# Altium schematic symbol library jlcpcb_2025_04_inductors_extended_1008.schlib: 378 symbols (part 2 of 7)
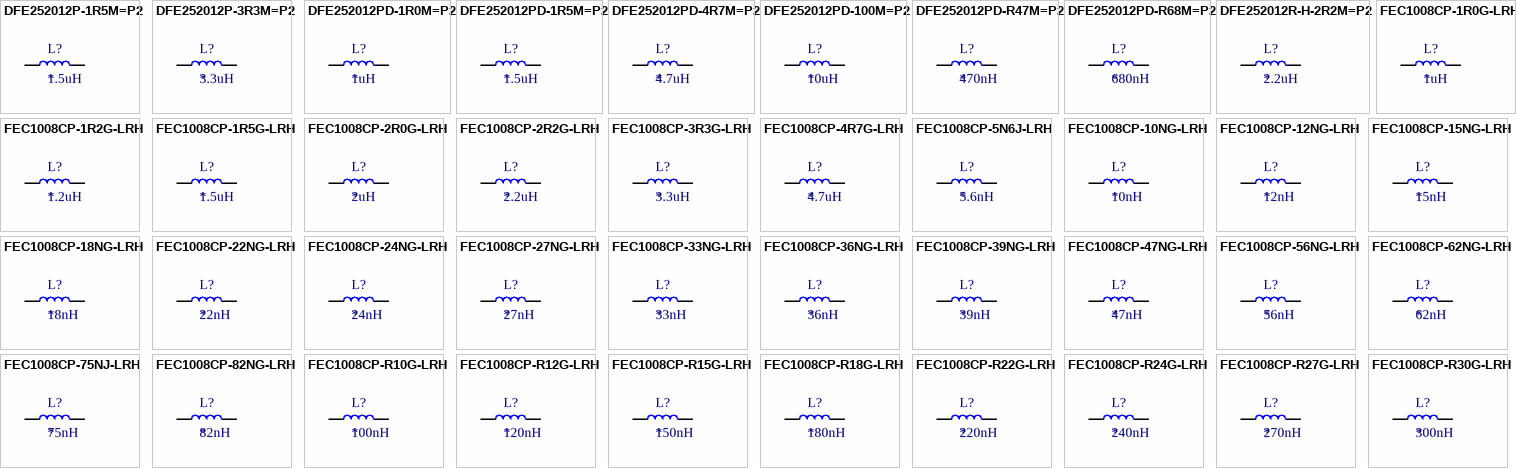
[diagram p10: symbols DFE252012P-1R5M=P2 to FEC1008CP-R30G-LRH]

## FEC1008CP-4R7G-LRH
designator L?  Inductance: 4.7uH
Inductor, 4.7uH, SMD 1008; Manufacturer: PSA(Prosperity Dielectrics); Manufacturer Part Number: FEC1008CP-4R7G-LRH; Package Size: 1008; JLCPCB Basic Part: No; JLCPCB Part Number: C346426; Supplier 1: LCSC; Category: Inductors; Supplier Part Number 1: C346426; RoHS: Yes; ComponentLink1Description: Datasheet; ComponentLink1URL: https://wmsc.lcsc.com/wmsc/upload/file/pdf/v2/lcsc/2209061730_PSA-Prosperity-Dielectrics-FEC1008CP-4R7G-LRH_C346426.pdf; ComponentLink2Description: JLCPCB Part URL; ComponentLink2URL: https://jlcpcb.com/partdetail/C346426; ComponentLink3Description: LCSC Part URL; ComponentLink3URL: https://lcsc.com/product-detail/Inductors-SMD_PSAProsperity-Dielectrics-PSAProsperity-Dielectrics-FEC1008CP-4R7G-LRH_C346426.html
footprint IND-1008 (1008 (2520M) Inductor)
pins: 1, 2

## FEC1008CP-5N6J-LRH
designator L?  Inductance: 5.6nH
Inductor, 5.6nH, ±5%, SMD 1008; Manufacturer: PSA(Prosperity Dielectrics); Manufacturer Part Number: FEC1008CP-5N6J-LRH; Package Size: 1008; JLCPCB Basic Part: No; JLCPCB Part Number: C346428; Supplier 1: LCSC; Category: Inductors; Supplier Part Number 1: C346428; Tolerance: ±5%; RoHS: Yes; ComponentLink1Description: Datasheet; ComponentLink1URL: https://wmsc.lcsc.com/wmsc/upload/file/pdf/v2/lcsc/2304140030_PSA-Prosperity-Dielectrics-FEC1008CP-5N6J-LRH_C346428.pdf; ComponentLink2Description: JLCPCB Part URL; ComponentLink2URL: https://jlcpcb.com/partdetail/C346428; ComponentLink3Description: LCSC Part URL; ComponentLink3URL: https://lcsc.com/product-detail/Inductors-SMD_PSAProsperity-Dielectrics-PSAProsperity-Dielectrics-FEC1008CP-5N6J-LRH_C346428.html
footprint IND-1008 (1008 (2520M) Inductor)
pins: 1, 2

## FEC1008CP-10NG-LRH
designator L?  Inductance: 10nH
Inductor, 10nH, ±2%, 80mΩ, 1A, SMD 1008; Manufacturer: PSA(Prosperity Dielectrics); Manufacturer Part Number: FEC1008CP-10NG-LRH; Package Size: 1008; JLCPCB Basic Part: No; JLCPCB Part Number: C346404; Supplier 1: LCSC; Category: Inductors; Supplier Part Number 1: C346404; Tolerance: ±2%; Rated Current: 1A; DC Resistance: 80mΩ; RoHS: Yes; ComponentLink1Description: Datasheet; ComponentLink1URL: https://wmsc.lcsc.com/wmsc/upload/file/pdf/v2/lcsc/2304140030_PSA-Prosperity-Dielectrics-FEC1008CP-10NG-LRH_C346404.pdf; ComponentLink2Description: JLCPCB Part URL; ComponentLink2URL: https://jlcpcb.com/partdetail/C346404; ComponentLink3Description: LCSC Part URL; ComponentLink3URL: https://lcsc.com/product-detail/Inductors-SMD_PSAProsperity-Dielectrics-PSAProsperity-Dielectrics-FEC1008CP-10NG-LRH_C346404.html
footprint IND-1008 (1008 (2520M) Inductor)
pins: 1, 2

## FEC1008CP-12NG-LRH
designator L?  Inductance: 12nH
Inductor, 12nH, ±2%, 90mΩ, 1A, SMD 1008; Manufacturer: PSA(Prosperity Dielectrics); Manufacturer Part Number: FEC1008CP-12NG-LRH; Package Size: 1008; JLCPCB Basic Part: No; JLCPCB Part Number: C346406; Supplier 1: LCSC; Category: Inductors; Supplier Part Number 1: C346406; Tolerance: ±2%; Rated Current: 1A; DC Resistance: 90mΩ; RoHS: Yes; ComponentLink1Description: Datasheet; ComponentLink1URL: https://wmsc.lcsc.com/wmsc/upload/file/pdf/v2/lcsc/2304140030_PSA-Prosperity-Dielectrics-FEC1008CP-12NG-LRH_C346406.pdf; ComponentLink2Description: JLCPCB Part URL; ComponentLink2URL: https://jlcpcb.com/partdetail/C346406; ComponentLink3Description: LCSC Part URL; ComponentLink3URL: https://lcsc.com/product-detail/Inductors-SMD_PSAProsperity-Dielectrics-PSAProsperity-Dielectrics-FEC1008CP-12NG-LRH_C346406.html
footprint IND-1008 (1008 (2520M) Inductor)
pins: 1, 2

## FEC1008CP-15NG-LRH
designator L?  Inductance: 15nH
Inductor, 15nH, ±2%, 100mΩ, 1A, SMD 1008; Manufacturer: PSA(Prosperity Dielectrics); Manufacturer Part Number: FEC1008CP-15NG-LRH; Package Size: 1008; JLCPCB Basic Part: No; JLCPCB Part Number: C346408; Supplier 1: LCSC; Category: Inductors; Supplier Part Number 1: C346408; Tolerance: ±2%; Rated Current: 1A; DC Resistance: 100mΩ; RoHS: Yes; ComponentLink1Description: Datasheet; ComponentLink1URL: https://wmsc.lcsc.com/wmsc/upload/file/pdf/v2/lcsc/2304140030_PSA-Prosperity-Dielectrics-FEC1008CP-15NG-LRH_C346408.pdf; ComponentLink2Description: JLCPCB Part URL; ComponentLink2URL: https://jlcpcb.com/partdetail/C346408; ComponentLink3Description: LCSC Part URL; ComponentLink3URL: https://lcsc.com/product-detail/Inductors-SMD_PSAProsperity-Dielectrics-PSAProsperity-Dielectrics-FEC1008CP-15NG-LRH_C346408.html
footprint IND-1008 (1008 (2520M) Inductor)
pins: 1, 2

## FEC1008CP-18NG-LRH
designator L?  Inductance: 18nH
Inductor, 18nH, ±2%, 110mΩ, 1A, SMD 1008; Manufacturer: PSA(Prosperity Dielectrics); Manufacturer Part Number: FEC1008CP-18NG-LRH; Package Size: 1008; JLCPCB Basic Part: No; JLCPCB Part Number: C346409; Supplier 1: LCSC; Category: Inductors; Supplier Part Number 1: C346409; Tolerance: ±2%; Rated Current: 1A; DC Resistance: 110mΩ; RoHS: Yes; ComponentLink1Description: Datasheet; ComponentLink1URL: https://wmsc.lcsc.com/wmsc/upload/file/pdf/v2/lcsc/2304140030_PSA-Prosperity-Dielectrics-FEC1008CP-18NG-LRH_C346409.pdf; ComponentLink2Description: JLCPCB Part URL; ComponentLink2URL: https://jlcpcb.com/partdetail/C346409; ComponentLink3Description: LCSC Part URL; ComponentLink3URL: https://lcsc.com/product-detail/Inductors-SMD_PSAProsperity-Dielectrics-PSAProsperity-Dielectrics-FEC1008CP-18NG-LRH_C346409.html
footprint IND-1008 (1008 (2520M) Inductor)
pins: 1, 2

## FEC1008CP-22NG-LRH
designator L?  Inductance: 22nH
Inductor, 22nH, ±2%, 120mΩ, 1A, SMD 1008; Manufacturer: PSA(Prosperity Dielectrics); Manufacturer Part Number: FEC1008CP-22NG-LRH; Package Size: 1008; JLCPCB Basic Part: No; JLCPCB Part Number: C346414; Supplier 1: LCSC; Category: Inductors; Supplier Part Number 1: C346414; Tolerance: ±2%; Rated Current: 1A; DC Resistance: 120mΩ; RoHS: Yes; ComponentLink1Description: Datasheet; ComponentLink1URL: https://wmsc.lcsc.com/wmsc/upload/file/pdf/v2/lcsc/2304140030_PSA-Prosperity-Dielectrics-FEC1008CP-22NG-LRH_C346414.pdf; ComponentLink2Description: JLCPCB Part URL; ComponentLink2URL: https://jlcpcb.com/partdetail/C346414; ComponentLink3Description: LCSC Part URL; ComponentLink3URL: https://lcsc.com/product-detail/Inductors-SMD_PSAProsperity-Dielectrics-PSAProsperity-Dielectrics-FEC1008CP-22NG-LRH_C346414.html
footprint IND-1008 (1008 (2520M) Inductor)
pins: 1, 2

## FEC1008CP-24NG-LRH
designator L?  Inductance: 24nH
Inductor, 24nH, ±2%, 130mΩ, 1A, SMD 1008; Manufacturer: PSA(Prosperity Dielectrics); Manufacturer Part Number: FEC1008CP-24NG-LRH; Package Size: 1008; JLCPCB Basic Part: No; JLCPCB Part Number: C346415; Supplier 1: LCSC; Category: Inductors; Supplier Part Number 1: C346415; Tolerance: ±2%; Rated Current: 1A; DC Resistance: 130mΩ; RoHS: Yes; ComponentLink1Description: Datasheet; ComponentLink1URL: https://wmsc.lcsc.com/wmsc/upload/file/pdf/v2/lcsc/2304140030_PSA-Prosperity-Dielectrics-FEC1008CP-24NG-LRH_C346415.pdf; ComponentLink2Description: JLCPCB Part URL; ComponentLink2URL: https://jlcpcb.com/partdetail/C346415; ComponentLink3Description: LCSC Part URL; ComponentLink3URL: https://lcsc.com/product-detail/Inductors-SMD_PSAProsperity-Dielectrics-PSAProsperity-Dielectrics-FEC1008CP-24NG-LRH_C346415.html
footprint IND-1008 (1008 (2520M) Inductor)
pins: 1, 2

## FEC1008CP-27NG-LRH
designator L?  Inductance: 27nH
Inductor, 27nH, ±2%, 130mΩ, 1A, SMD 1008; Manufacturer: PSA(Prosperity Dielectrics); Manufacturer Part Number: FEC1008CP-27NG-LRH; Package Size: 1008; JLCPCB Basic Part: No; JLCPCB Part Number: C346416; Supplier 1: LCSC; Category: Inductors; Supplier Part Number 1: C346416; Tolerance: ±2%; Rated Current: 1A; DC Resistance: 130mΩ; RoHS: Yes; ComponentLink1Description: Datasheet; ComponentLink1URL: https://wmsc.lcsc.com/wmsc/upload/file/pdf/v2/lcsc/2304140030_PSA-Prosperity-Dielectrics-FEC1008CP-27NG-LRH_C346416.pdf; ComponentLink2Description: JLCPCB Part URL; ComponentLink2URL: https://jlcpcb.com/partdetail/C346416; ComponentLink3Description: LCSC Part URL; ComponentLink3URL: https://lcsc.com/product-detail/Inductors-SMD_PSAProsperity-Dielectrics-PSAProsperity-Dielectrics-FEC1008CP-27NG-LRH_C346416.html
footprint IND-1008 (1008 (2520M) Inductor)
pins: 1, 2

## FEC1008CP-33NG-LRH
designator L?  Inductance: 33nH
Inductor, 33nH, ±2%, 140mΩ, 1A, SMD 1008; Manufacturer: PSA(Prosperity Dielectrics); Manufacturer Part Number: FEC1008CP-33NG-LRH; Package Size: 1008; JLCPCB Basic Part: No; JLCPCB Part Number: C346420; Supplier 1: LCSC; Category: Inductors; Supplier Part Number 1: C346420; Tolerance: ±2%; Rated Current: 1A; DC Resistance: 140mΩ; RoHS: Yes; ComponentLink1Description: Datasheet; ComponentLink1URL: https://wmsc.lcsc.com/wmsc/upload/file/pdf/v2/lcsc/2304140030_PSA-Prosperity-Dielectrics-FEC1008CP-33NG-LRH_C346420.pdf; ComponentLink2Description: JLCPCB Part URL; ComponentLink2URL: https://jlcpcb.com/partdetail/C346420; ComponentLink3Description: LCSC Part URL; ComponentLink3URL: https://lcsc.com/product-detail/Inductors-SMD_PSAProsperity-Dielectrics-PSAProsperity-Dielectrics-FEC1008CP-33NG-LRH_C346420.html
footprint IND-1008 (1008 (2520M) Inductor)
pins: 1, 2

## FEC1008CP-36NG-LRH
designator L?  Inductance: 36nH
Inductor, 36nH, ±2%, SMD 1008; Manufacturer: PSA(Prosperity Dielectrics); Manufacturer Part Number: FEC1008CP-36NG-LRH; Package Size: 1008; JLCPCB Basic Part: No; JLCPCB Part Number: C346421; Supplier 1: LCSC; Category: Inductors; Supplier Part Number 1: C346421; Tolerance: ±2%; RoHS: Yes; ComponentLink1Description: Datasheet; ComponentLink1URL: https://wmsc.lcsc.com/wmsc/upload/file/pdf/v2/lcsc/2304140030_PSA-Prosperity-Dielectrics-FEC1008CP-36NG-LRH_C346421.pdf; ComponentLink2Description: JLCPCB Part URL; ComponentLink2URL: https://jlcpcb.com/partdetail/C346421; ComponentLink3Description: LCSC Part URL; ComponentLink3URL: https://lcsc.com/product-detail/Inductors-SMD_PSAProsperity-Dielectrics-PSAProsperity-Dielectrics-FEC1008CP-36NG-LRH_C346421.html
footprint IND-1008 (1008 (2520M) Inductor)
pins: 1, 2

## FEC1008CP-39NG-LRH
designator L?  Inductance: 39nH
Inductor, 39nH, ±2%, 150mΩ, 1A, SMD 1008; Manufacturer: PSA(Prosperity Dielectrics); Manufacturer Part Number: FEC1008CP-39NG-LRH; Package Size: 1008; JLCPCB Basic Part: No; JLCPCB Part Number: C346422; Supplier 1: LCSC; Category: Inductors; Supplier Part Number 1: C346422; Tolerance: ±2%; Rated Current: 1A; DC Resistance: 150mΩ; RoHS: Yes; ComponentLink1Description: Datasheet; ComponentLink1URL: https://wmsc.lcsc.com/wmsc/upload/file/pdf/v2/lcsc/2304140030_PSA-Prosperity-Dielectrics-FEC1008CP-39NG-LRH_C346422.pdf; ComponentLink2Description: JLCPCB Part URL; ComponentLink2URL: https://jlcpcb.com/partdetail/C346422; ComponentLink3Description: LCSC Part URL; ComponentLink3URL: https://lcsc.com/product-detail/Inductors-SMD_PSAProsperity-Dielectrics-PSAProsperity-Dielectrics-FEC1008CP-39NG-LRH_C346422.html
footprint IND-1008 (1008 (2520M) Inductor)
pins: 1, 2

## FEC1008CP-47NG-LRH
designator L?  Inductance: 47nH
Inductor, 47nH, ±2%, 160mΩ, 1A, SMD 1008; Manufacturer: PSA(Prosperity Dielectrics); Manufacturer Part Number: FEC1008CP-47NG-LRH; Package Size: 1008; JLCPCB Basic Part: No; JLCPCB Part Number: C346425; Supplier 1: LCSC; Category: Inductors; Supplier Part Number 1: C346425; Tolerance: ±2%; Rated Current: 1A; DC Resistance: 160mΩ; RoHS: Yes; ComponentLink1Description: Datasheet; ComponentLink1URL: https://wmsc.lcsc.com/wmsc/upload/file/pdf/v2/lcsc/2304140030_PSA-Prosperity-Dielectrics-FEC1008CP-47NG-LRH_C346425.pdf; ComponentLink2Description: JLCPCB Part URL; ComponentLink2URL: https://jlcpcb.com/partdetail/C346425; ComponentLink3Description: LCSC Part URL; ComponentLink3URL: https://lcsc.com/product-detail/Inductors-SMD_PSAProsperity-Dielectrics-PSAProsperity-Dielectrics-FEC1008CP-47NG-LRH_C346425.html
footprint IND-1008 (1008 (2520M) Inductor)
pins: 1, 2

## FEC1008CP-56NG-LRH
designator L?  Inductance: 56nH
Inductor, 56nH, ±2%, 180mΩ, 1A, SMD 1008; Manufacturer: PSA(Prosperity Dielectrics); Manufacturer Part Number: FEC1008CP-56NG-LRH; Package Size: 1008; JLCPCB Basic Part: No; JLCPCB Part Number: C346427; Supplier 1: LCSC; Category: Inductors; Supplier Part Number 1: C346427; Tolerance: ±2%; Rated Current: 1A; DC Resistance: 180mΩ; RoHS: Yes; ComponentLink1Description: Datasheet; ComponentLink1URL: https://wmsc.lcsc.com/wmsc/upload/file/pdf/v2/lcsc/2304140030_PSA-Prosperity-Dielectrics-FEC1008CP-56NG-LRH_C346427.pdf; ComponentLink2Description: JLCPCB Part URL; ComponentLink2URL: https://jlcpcb.com/partdetail/C346427; ComponentLink3Description: LCSC Part URL; ComponentLink3URL: https://lcsc.com/product-detail/Inductors-SMD_PSAProsperity-Dielectrics-PSAProsperity-Dielectrics-FEC1008CP-56NG-LRH_C346427.html
footprint IND-1008 (1008 (2520M) Inductor)
pins: 1, 2

## FEC1008CP-62NG-LRH
designator L?  Inductance: 62nH
Inductor, 62nH, ±2%, SMD 1008; Manufacturer: PSA(Prosperity Dielectrics); Manufacturer Part Number: FEC1008CP-62NG-LRH; Package Size: 1008; JLCPCB Basic Part: No; JLCPCB Part Number: C346430; Supplier 1: LCSC; Category: Inductors; Supplier Part Number 1: C346430; Tolerance: ±2%; RoHS: Yes; ComponentLink1Description: Datasheet; ComponentLink1URL: https://wmsc.lcsc.com/wmsc/upload/file/pdf/v2/lcsc/2304140030_PSA-Prosperity-Dielectrics-FEC1008CP-62NG-LRH_C346430.pdf; ComponentLink2Description: JLCPCB Part URL; ComponentLink2URL: https://jlcpcb.com/partdetail/C346430; ComponentLink3Description: LCSC Part URL; ComponentLink3URL: https://lcsc.com/product-detail/Inductors-SMD_PSAProsperity-Dielectrics-PSAProsperity-Dielectrics-FEC1008CP-62NG-LRH_C346430.html
footprint IND-1008 (1008 (2520M) Inductor)
pins: 1, 2

## FEC1008CP-75NJ-LRH
designator L?  Inductance: 75nH
Inductor, 75nH, ±5%, SMD 1008; Manufacturer: PSA(Prosperity Dielectrics); Manufacturer Part Number: FEC1008CP-75NJ-LRH; Package Size: 1008; JLCPCB Basic Part: No; JLCPCB Part Number: C346433; Supplier 1: LCSC; Category: Inductors; Supplier Part Number 1: C346433; Tolerance: ±5%; RoHS: Yes; ComponentLink1Description: Datasheet; ComponentLink1URL: https://wmsc.lcsc.com/wmsc/upload/file/pdf/v2/lcsc/2304140030_PSA-Prosperity-Dielectrics-FEC1008CP-75NJ-LRH_C346433.pdf; ComponentLink2Description: JLCPCB Part URL; ComponentLink2URL: https://jlcpcb.com/partdetail/C346433; ComponentLink3Description: LCSC Part URL; ComponentLink3URL: https://lcsc.com/product-detail/Inductors-SMD_PSAProsperity-Dielectrics-PSAProsperity-Dielectrics-FEC1008CP-75NJ-LRH_C346433.html
footprint IND-1008 (1008 (2520M) Inductor)
pins: 1, 2

## FEC1008CP-82NG-LRH
designator L?  Inductance: 82nH
Inductor, 82nH, ±2%, 220mΩ, 1A, SMD 1008; Manufacturer: PSA(Prosperity Dielectrics); Manufacturer Part Number: FEC1008CP-82NG-LRH; Package Size: 1008; JLCPCB Basic Part: No; JLCPCB Part Number: C346434; Supplier 1: LCSC; Category: Inductors; Supplier Part Number 1: C346434; Tolerance: ±2%; Rated Current: 1A; DC Resistance: 220mΩ; RoHS: Yes; ComponentLink1Description: Datasheet; ComponentLink1URL: https://wmsc.lcsc.com/wmsc/upload/file/pdf/v2/lcsc/2304140030_PSA-Prosperity-Dielectrics-FEC1008CP-82NG-LRH_C346434.pdf; ComponentLink2Description: JLCPCB Part URL; ComponentLink2URL: https://jlcpcb.com/partdetail/C346434; ComponentLink3Description: LCSC Part URL; ComponentLink3URL: https://lcsc.com/product-detail/Inductors-SMD_PSAProsperity-Dielectrics-PSAProsperity-Dielectrics-FEC1008CP-82NG-LRH_C346434.html
footprint IND-1008 (1008 (2520M) Inductor)
pins: 1, 2

## FEC1008CP-R10G-LRH
designator L?  Inductance: 100nH
Inductor, 100nH, ±2%, 560mΩ, 650mA, SMD 1008; Manufacturer: PSA(Prosperity Dielectrics); Manufacturer Part Number: FEC1008CP-R10G-LRH; Package Size: 1008; JLCPCB Basic Part: No; JLCPCB Part Number: C346437; Supplier 1: LCSC; Category: Inductors; Supplier Part Number 1: C346437; Tolerance: ±2%; Rated Current: 650mA; DC Resistance: 560mΩ; RoHS: Yes; ComponentLink1Description: Datasheet; ComponentLink1URL: https://wmsc.lcsc.com/wmsc/upload/file/pdf/v2/lcsc/2304140030_PSA-Prosperity-Dielectrics-FEC1008CP-R10G-LRH_C346437.pdf; ComponentLink2Description: JLCPCB Part URL; ComponentLink2URL: https://jlcpcb.com/partdetail/C346437; ComponentLink3Description: LCSC Part URL; ComponentLink3URL: https://lcsc.com/product-detail/Inductors-SMD_PSAProsperity-Dielectrics-PSAProsperity-Dielectrics-FEC1008CP-R10G-LRH_C346437.html
footprint IND-1008 (1008 (2520M) Inductor)
pins: 1, 2

## FEC1008CP-R12G-LRH
designator L?  Inductance: 120nH
Inductor, 120nH, ±2%, 630mΩ, 650mA, SMD 1008; Manufacturer: PSA(Prosperity Dielectrics); Manufacturer Part Number: FEC1008CP-R12G-LRH; Package Size: 1008; JLCPCB Basic Part: No; JLCPCB Part Number: C346438; Supplier 1: LCSC; Category: Inductors; Supplier Part Number 1: C346438; Tolerance: ±2%; Rated Current: 650mA; DC Resistance: 630mΩ; RoHS: Yes; ComponentLink1Description: Datasheet; ComponentLink1URL: https://wmsc.lcsc.com/wmsc/upload/file/pdf/v2/lcsc/2304140030_PSA-Prosperity-Dielectrics-FEC1008CP-R12G-LRH_C346438.pdf; ComponentLink2Description: JLCPCB Part URL; ComponentLink2URL: https://jlcpcb.com/partdetail/C346438; ComponentLink3Description: LCSC Part URL; ComponentLink3URL: https://lcsc.com/product-detail/Inductors-SMD_PSAProsperity-Dielectrics-PSAProsperity-Dielectrics-FEC1008CP-R12G-LRH_C346438.html
footprint IND-1008 (1008 (2520M) Inductor)
pins: 1, 2

## FEC1008CP-R15G-LRH
designator L?  Inductance: 150nH
Inductor, 150nH, ±2%, 700mΩ, 580mA, SMD 1008; Manufacturer: PSA(Prosperity Dielectrics); Manufacturer Part Number: FEC1008CP-R15G-LRH; Package Size: 1008; JLCPCB Basic Part: No; JLCPCB Part Number: C346439; Supplier 1: LCSC; Category: Inductors; Supplier Part Number 1: C346439; Tolerance: ±2%; Rated Current: 580mA; DC Resistance: 700mΩ; RoHS: Yes; ComponentLink1Description: Datasheet; ComponentLink1URL: https://wmsc.lcsc.com/wmsc/upload/file/pdf/v2/lcsc/2304140030_PSA-Prosperity-Dielectrics-FEC1008CP-R15G-LRH_C346439.pdf; ComponentLink2Description: JLCPCB Part URL; ComponentLink2URL: https://jlcpcb.com/partdetail/C346439; ComponentLink3Description: LCSC Part URL; ComponentLink3URL: https://lcsc.com/product-detail/Inductors-SMD_PSAProsperity-Dielectrics-PSAProsperity-Dielectrics-FEC1008CP-R15G-LRH_C346439.html
footprint IND-1008 (1008 (2520M) Inductor)
pins: 1, 2

## FEC1008CP-R18G-LRH
designator L?  Inductance: 180nH
Inductor, 180nH, ±2%, 770mΩ, 620mA, SMD 1008; Manufacturer: PSA(Prosperity Dielectrics); Manufacturer Part Number: FEC1008CP-R18G-LRH; Package Size: 1008; JLCPCB Basic Part: No; JLCPCB Part Number: C346440; Supplier 1: LCSC; Category: Inductors; Supplier Part Number 1: C346440; Tolerance: ±2%; Rated Current: 620mA; DC Resistance: 770mΩ; RoHS: Yes; ComponentLink1Description: Datasheet; ComponentLink1URL: https://wmsc.lcsc.com/wmsc/upload/file/pdf/v2/lcsc/2304140030_PSA-Prosperity-Dielectrics-FEC1008CP-R18G-LRH_C346440.pdf; ComponentLink2Description: JLCPCB Part URL; ComponentLink2URL: https://jlcpcb.com/partdetail/C346440; ComponentLink3Description: LCSC Part URL; ComponentLink3URL: https://lcsc.com/product-detail/Inductors-SMD_PSAProsperity-Dielectrics-PSAProsperity-Dielectrics-FEC1008CP-R18G-LRH_C346440.html
footprint IND-1008 (1008 (2520M) Inductor)
pins: 1, 2

## FEC1008CP-R22G-LRH
designator L?  Inductance: 220nH
Inductor, 220nH, ±2%, 840mΩ, 500mA, SMD 1008; Manufacturer: PSA(Prosperity Dielectrics); Manufacturer Part Number: FEC1008CP-R22G-LRH; Package Size: 1008; JLCPCB Basic Part: No; JLCPCB Part Number: C346442; Supplier 1: LCSC; Category: Inductors; Supplier Part Number 1: C346442; Tolerance: ±2%; Rated Current: 500mA; DC Resistance: 840mΩ; RoHS: Yes; ComponentLink1Description: Datasheet; ComponentLink1URL: https://wmsc.lcsc.com/wmsc/upload/file/pdf/v2/lcsc/2304140030_PSA-Prosperity-Dielectrics-FEC1008CP-R22G-LRH_C346442.pdf; ComponentLink2Description: JLCPCB Part URL; ComponentLink2URL: https://jlcpcb.com/partdetail/C346442; ComponentLink3Description: LCSC Part URL; ComponentLink3URL: https://lcsc.com/product-detail/Inductors-SMD_PSAProsperity-Dielectrics-PSAProsperity-Dielectrics-FEC1008CP-R22G-LRH_C346442.html
footprint IND-1008 (1008 (2520M) Inductor)
pins: 1, 2

## FEC1008CP-R24G-LRH
designator L?  Inductance: 240nH
Inductor, 240nH, ±2%, 840mΩ, 500mA, SMD 1008; Manufacturer: PSA(Prosperity Dielectrics); Manufacturer Part Number: FEC1008CP-R24G-LRH; Package Size: 1008; JLCPCB Basic Part: No; JLCPCB Part Number: C346443; Supplier 1: LCSC; Category: Inductors; Supplier Part Number 1: C346443; Tolerance: ±2%; Rated Current: 500mA; DC Resistance: 840mΩ; RoHS: Yes; ComponentLink1Description: Datasheet; ComponentLink1URL: https://wmsc.lcsc.com/wmsc/upload/file/pdf/v2/lcsc/2304140030_PSA-Prosperity-Dielectrics-FEC1008CP-R24G-LRH_C346443.pdf; ComponentLink2Description: JLCPCB Part URL; ComponentLink2URL: https://jlcpcb.com/partdetail/C346443; ComponentLink3Description: LCSC Part URL; ComponentLink3URL: https://lcsc.com/product-detail/Inductors-SMD_PSAProsperity-Dielectrics-PSAProsperity-Dielectrics-FEC1008CP-R24G-LRH_C346443.html
footprint IND-1008 (1008 (2520M) Inductor)
pins: 1, 2

## FEC1008CP-R27G-LRH
designator L?  Inductance: 270nH
Inductor, 270nH, ±2%, 910mΩ, 500mA, SMD 1008; Manufacturer: PSA(Prosperity Dielectrics); Manufacturer Part Number: FEC1008CP-R27G-LRH; Package Size: 1008; JLCPCB Basic Part: No; JLCPCB Part Number: C346444; Supplier 1: LCSC; Category: Inductors; Supplier Part Number 1: C346444; Tolerance: ±2%; Rated Current: 500mA; DC Resistance: 910mΩ; RoHS: Yes; ComponentLink1Description: Datasheet; ComponentLink1URL: https://wmsc.lcsc.com/wmsc/upload/file/pdf/v2/lcsc/2304140030_PSA-Prosperity-Dielectrics-FEC1008CP-R27G-LRH_C346444.pdf; ComponentLink2Description: JLCPCB Part URL; ComponentLink2URL: https://jlcpcb.com/partdetail/C346444; ComponentLink3Description: LCSC Part URL; ComponentLink3URL: https://lcsc.com/product-detail/Inductors-SMD_PSAProsperity-Dielectrics-PSAProsperity-Dielectrics-FEC1008CP-R27G-LRH_C346444.html
footprint IND-1008 (1008 (2520M) Inductor)
pins: 1, 2

## FEC1008CP-R30G-LRH
designator L?  Inductance: 300nH
Inductor, 300nH, ±2%, 1.05Ω, 660mA, SMD 1008; Manufacturer: PSA(Prosperity Dielectrics); Manufacturer Part Number: FEC1008CP-R30G-LRH; Package Size: 1008; JLCPCB Basic Part: No; JLCPCB Part Number: C346445; Supplier 1: LCSC; Category: Inductors; Supplier Part Number 1: C346445; Tolerance: ±2%; Rated Current: 660mA; DC Resistance: 1.05Ω; RoHS: Yes; ComponentLink1Description: Datasheet; ComponentLink1URL: https://wmsc.lcsc.com/wmsc/upload/file/pdf/v2/lcsc/2304140030_PSA-Prosperity-Dielectrics-FEC1008CP-R30G-LRH_C346445.pdf; ComponentLink2Description: JLCPCB Part URL; ComponentLink2URL: https://jlcpcb.com/partdetail/C346445; ComponentLink3Description: LCSC Part URL; ComponentLink3URL: https://lcsc.com/product-detail/Inductors-SMD_PSAProsperity-Dielectrics-PSAProsperity-Dielectrics-FEC1008CP-R30G-LRH_C346445.html
footprint IND-1008 (1008 (2520M) Inductor)
pins: 1, 2

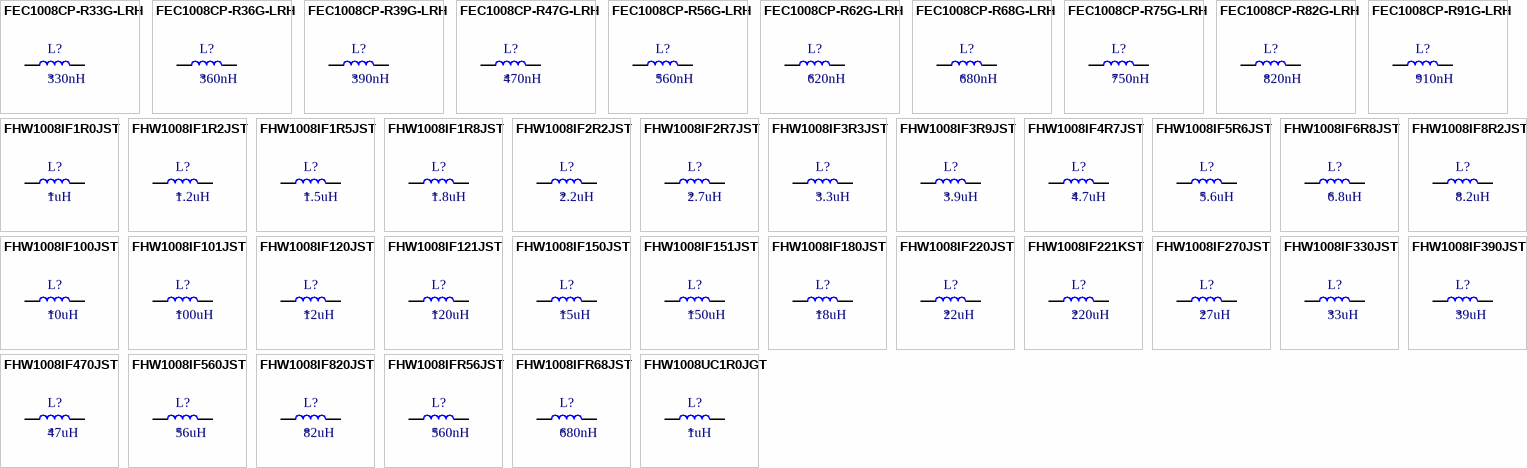
[diagram p2: symbols FEC1008CP-R33G-LRH to FHW1008UC1R0JGT]

## FEC1008CP-R33G-LRH
designator L?  Inductance: 330nH
Inductor, 330nH, ±2%, 1.05Ω, 450mA, SMD 1008; Manufacturer: PSA(Prosperity Dielectrics); Manufacturer Part Number: FEC1008CP-R33G-LRH; Package Size: 1008; JLCPCB Basic Part: No; JLCPCB Part Number: C346446; Supplier 1: LCSC; Category: Inductors; Supplier Part Number 1: C346446; Tolerance: ±2%; Rated Current: 450mA; DC Resistance: 1.05Ω; RoHS: Yes; ComponentLink1Description: Datasheet; ComponentLink1URL: https://wmsc.lcsc.com/wmsc/upload/file/pdf/v2/lcsc/2304140030_PSA-Prosperity-Dielectrics-FEC1008CP-R33G-LRH_C346446.pdf; ComponentLink2Description: JLCPCB Part URL; ComponentLink2URL: https://jlcpcb.com/partdetail/C346446; ComponentLink3Description: LCSC Part URL; ComponentLink3URL: https://lcsc.com/product-detail/Inductors-SMD_PSAProsperity-Dielectrics-PSAProsperity-Dielectrics-FEC1008CP-R33G-LRH_C346446.html
footprint IND-1008 (1008 (2520M) Inductor)
pins: 1, 2

## FEC1008CP-R36G-LRH
designator L?  Inductance: 360nH
Inductor, 360nH, ±2%, 1.05Ω, 660mA, SMD 1008; Manufacturer: PSA(Prosperity Dielectrics); Manufacturer Part Number: FEC1008CP-R36G-LRH; Package Size: 1008; JLCPCB Basic Part: No; JLCPCB Part Number: C346447; Supplier 1: LCSC; Category: Inductors; Supplier Part Number 1: C346447; Tolerance: ±2%; Rated Current: 660mA; DC Resistance: 1.05Ω; RoHS: Yes; ComponentLink1Description: Datasheet; ComponentLink1URL: https://wmsc.lcsc.com/wmsc/upload/file/pdf/v2/lcsc/2304140030_PSA-Prosperity-Dielectrics-FEC1008CP-R36G-LRH_C346447.pdf; ComponentLink2Description: JLCPCB Part URL; ComponentLink2URL: https://jlcpcb.com/partdetail/C346447; ComponentLink3Description: LCSC Part URL; ComponentLink3URL: https://lcsc.com/product-detail/Inductors-SMD_PSAProsperity-Dielectrics-PSAProsperity-Dielectrics-FEC1008CP-R36G-LRH_C346447.html
footprint IND-1008 (1008 (2520M) Inductor)
pins: 1, 2

## FEC1008CP-R39G-LRH
designator L?  Inductance: 390nH
Inductor, 390nH, ±2%, 1.12Ω, 470mA, SMD 1008; Manufacturer: PSA(Prosperity Dielectrics); Manufacturer Part Number: FEC1008CP-R39G-LRH; Package Size: 1008; JLCPCB Basic Part: No; JLCPCB Part Number: C346448; Supplier 1: LCSC; Category: Inductors; Supplier Part Number 1: C346448; Tolerance: ±2%; Rated Current: 470mA; DC Resistance: 1.12Ω; RoHS: Yes; ComponentLink1Description: Datasheet; ComponentLink1URL: https://wmsc.lcsc.com/wmsc/upload/file/pdf/v2/lcsc/2304140030_PSA-Prosperity-Dielectrics-FEC1008CP-R39G-LRH_C346448.pdf; ComponentLink2Description: JLCPCB Part URL; ComponentLink2URL: https://jlcpcb.com/partdetail/C346448; ComponentLink3Description: LCSC Part URL; ComponentLink3URL: https://lcsc.com/product-detail/Inductors-SMD_PSAProsperity-Dielectrics-PSAProsperity-Dielectrics-FEC1008CP-R39G-LRH_C346448.html
footprint IND-1008 (1008 (2520M) Inductor)
pins: 1, 2

## FEC1008CP-R47G-LRH
designator L?  Inductance: 470nH
Inductor, 470nH, ±2%, 1.19Ω, 470mA, SMD 1008; Manufacturer: PSA(Prosperity Dielectrics); Manufacturer Part Number: FEC1008CP-R47G-LRH; Package Size: 1008; JLCPCB Basic Part: No; JLCPCB Part Number: C346450; Supplier 1: LCSC; Category: Inductors; Supplier Part Number 1: C346450; Tolerance: ±2%; Rated Current: 470mA; DC Resistance: 1.19Ω; RoHS: Yes; ComponentLink1Description: Datasheet; ComponentLink1URL: https://wmsc.lcsc.com/wmsc/upload/file/pdf/v2/lcsc/1912111437_PSA-Prosperity-Dielectrics-FEC1008CP-R47G-LRH_C346450.pdf; ComponentLink2Description: JLCPCB Part URL; ComponentLink2URL: https://jlcpcb.com/partdetail/C346450; ComponentLink3Description: LCSC Part URL; ComponentLink3URL: https://lcsc.com/product-detail/Inductors-SMD_PSAProsperity-Dielectrics-PSAProsperity-Dielectrics-FEC1008CP-R47G-LRH_C346450.html
footprint IND-1008 (1008 (2520M) Inductor)
pins: 1, 2

## FEC1008CP-R56G-LRH
designator L?  Inductance: 560nH
Inductor, 560nH, ±2%, 1.33Ω, 400mA, SMD 1008; Manufacturer: PSA(Prosperity Dielectrics); Manufacturer Part Number: FEC1008CP-R56G-LRH; Package Size: 1008; JLCPCB Basic Part: No; JLCPCB Part Number: C346451; Supplier 1: LCSC; Category: Inductors; Supplier Part Number 1: C346451; Tolerance: ±2%; Rated Current: 400mA; DC Resistance: 1.33Ω; RoHS: Yes; ComponentLink1Description: Datasheet; ComponentLink1URL: https://wmsc.lcsc.com/wmsc/upload/file/pdf/v2/lcsc/2304140030_PSA-Prosperity-Dielectrics-FEC1008CP-R56G-LRH_C346451.pdf; ComponentLink2Description: JLCPCB Part URL; ComponentLink2URL: https://jlcpcb.com/partdetail/C346451; ComponentLink3Description: LCSC Part URL; ComponentLink3URL: https://lcsc.com/product-detail/Inductors-SMD_PSAProsperity-Dielectrics-PSAProsperity-Dielectrics-FEC1008CP-R56G-LRH_C346451.html
footprint IND-1008 (1008 (2520M) Inductor)
pins: 1, 2

## FEC1008CP-R62G-LRH
designator L?  Inductance: 620nH
Inductor, 620nH, ±2%, 1.4Ω, 300mA, SMD 1008; Manufacturer: PSA(Prosperity Dielectrics); Manufacturer Part Number: FEC1008CP-R62G-LRH; Package Size: 1008; JLCPCB Basic Part: No; JLCPCB Part Number: C346452; Supplier 1: LCSC; Category: Inductors; Supplier Part Number 1: C346452; Tolerance: ±2%; Rated Current: 300mA; DC Resistance: 1.4Ω; RoHS: Yes; ComponentLink1Description: Datasheet; ComponentLink1URL: https://wmsc.lcsc.com/wmsc/upload/file/pdf/v2/lcsc/2304140030_PSA-Prosperity-Dielectrics-FEC1008CP-R62G-LRH_C346452.pdf; ComponentLink2Description: JLCPCB Part URL; ComponentLink2URL: https://jlcpcb.com/partdetail/C346452; ComponentLink3Description: LCSC Part URL; ComponentLink3URL: https://lcsc.com/product-detail/Inductors-SMD_PSAProsperity-Dielectrics-PSAProsperity-Dielectrics-FEC1008CP-R62G-LRH_C346452.html
footprint IND-1008 (1008 (2520M) Inductor)
pins: 1, 2

## FEC1008CP-R68G-LRH
designator L?  Inductance: 680nH
Inductor, 680nH, ±2%, 1.47Ω, 400mA, SMD 1008; Manufacturer: PSA(Prosperity Dielectrics); Manufacturer Part Number: FEC1008CP-R68G-LRH; Package Size: 1008; JLCPCB Basic Part: No; JLCPCB Part Number: C346453; Supplier 1: LCSC; Category: Inductors; Supplier Part Number 1: C346453; Tolerance: ±2%; Rated Current: 400mA; DC Resistance: 1.47Ω; RoHS: Yes; ComponentLink1Description: Datasheet; ComponentLink1URL: https://wmsc.lcsc.com/wmsc/upload/file/pdf/v2/lcsc/2304140030_PSA-Prosperity-Dielectrics-FEC1008CP-R68G-LRH_C346453.pdf; ComponentLink2Description: JLCPCB Part URL; ComponentLink2URL: https://jlcpcb.com/partdetail/C346453; ComponentLink3Description: LCSC Part URL; ComponentLink3URL: https://lcsc.com/product-detail/Inductors-SMD_PSAProsperity-Dielectrics-PSAProsperity-Dielectrics-FEC1008CP-R68G-LRH_C346453.html
footprint IND-1008 (1008 (2520M) Inductor)
pins: 1, 2

## FEC1008CP-R75G-LRH
designator L?  Inductance: 750nH
Inductor, 750nH, ±2%, 1.54Ω, 360mA, SMD 1008; Manufacturer: PSA(Prosperity Dielectrics); Manufacturer Part Number: FEC1008CP-R75G-LRH; Package Size: 1008; JLCPCB Basic Part: No; JLCPCB Part Number: C346454; Supplier 1: LCSC; Category: Inductors; Supplier Part Number 1: C346454; Tolerance: ±2%; Rated Current: 360mA; DC Resistance: 1.54Ω; RoHS: Yes; ComponentLink1Description: Datasheet; ComponentLink1URL: https://wmsc.lcsc.com/wmsc/upload/file/pdf/v2/lcsc/2304140030_PSA-Prosperity-Dielectrics-FEC1008CP-R75G-LRH_C346454.pdf; ComponentLink2Description: JLCPCB Part URL; ComponentLink2URL: https://jlcpcb.com/partdetail/C346454; ComponentLink3Description: LCSC Part URL; ComponentLink3URL: https://lcsc.com/product-detail/Inductors-SMD_PSAProsperity-Dielectrics-PSAProsperity-Dielectrics-FEC1008CP-R75G-LRH_C346454.html
footprint IND-1008 (1008 (2520M) Inductor)
pins: 1, 2

## FEC1008CP-R82G-LRH
designator L?  Inductance: 820nH
Inductor, 820nH, ±2%, 1.61Ω, 400mA, SMD 1008; Manufacturer: PSA(Prosperity Dielectrics); Manufacturer Part Number: FEC1008CP-R82G-LRH; Package Size: 1008; JLCPCB Basic Part: No; JLCPCB Part Number: C346455; Supplier 1: LCSC; Category: Inductors; Supplier Part Number 1: C346455; Tolerance: ±2%; Rated Current: 400mA; DC Resistance: 1.61Ω; RoHS: Yes; ComponentLink1Description: Datasheet; ComponentLink1URL: https://wmsc.lcsc.com/wmsc/upload/file/pdf/v2/lcsc/2304140030_PSA-Prosperity-Dielectrics-FEC1008CP-R82G-LRH_C346455.pdf; ComponentLink2Description: JLCPCB Part URL; ComponentLink2URL: https://jlcpcb.com/partdetail/C346455; ComponentLink3Description: LCSC Part URL; ComponentLink3URL: https://lcsc.com/product-detail/Inductors-SMD_PSAProsperity-Dielectrics-PSAProsperity-Dielectrics-FEC1008CP-R82G-LRH_C346455.html
footprint IND-1008 (1008 (2520M) Inductor)
pins: 1, 2

## FEC1008CP-R91G-LRH
designator L?  Inductance: 910nH
Inductor, 910nH, ±2%, 1.68Ω, 380mA, SMD 1008; Manufacturer: PSA(Prosperity Dielectrics); Manufacturer Part Number: FEC1008CP-R91G-LRH; Package Size: 1008; JLCPCB Basic Part: No; JLCPCB Part Number: C346456; Supplier 1: LCSC; Category: Inductors; Supplier Part Number 1: C346456; Tolerance: ±2%; Rated Current: 380mA; DC Resistance: 1.68Ω; RoHS: Yes; ComponentLink1Description: Datasheet; ComponentLink1URL: https://wmsc.lcsc.com/wmsc/upload/file/pdf/v2/lcsc/2005211034_PSA-Prosperity-Dielectrics-FEC1008CP-R91G-LRH_C346456.pdf; ComponentLink2Description: JLCPCB Part URL; ComponentLink2URL: https://jlcpcb.com/partdetail/C346456; ComponentLink3Description: LCSC Part URL; ComponentLink3URL: https://lcsc.com/product-detail/Inductors-SMD_PSAProsperity-Dielectrics-PSAProsperity-Dielectrics-FEC1008CP-R91G-LRH_C346456.html
footprint IND-1008 (1008 (2520M) Inductor)
pins: 1, 2

## FHW1008IF1R0JST
designator L?  Inductance: 1uH
Inductor, 1uH, ±5%, 550mΩ, 580mA, SMD 1008; Manufacturer: FH(Guangdong Fenghua Advanced Tech); Manufacturer Part Number: FHW1008IF1R0JST; Self-Resonant Frequency: 300MHz; Q Factor: 12@25.2MHz; Package Size: 1008; JLCPCB Basic Part: No; JLCPCB Part Number: C394004; Supplier 1: LCSC; Category: Inductors; Supplier Part Number 1: C394004; Tolerance: ±5%; Rated Current: 580mA; DC Resistance: 550mΩ; RoHS: Yes; ComponentLink1Description: Datasheet; ComponentLink1URL: https://wmsc.lcsc.com/wmsc/upload/file/pdf/v2/lcsc/2303141830_FH--Guangdong-Fenghua-Advanced-Tech-FHW1008IF1R0JST_C394004.pdf; ComponentLink2Description: JLCPCB Part URL; ComponentLink2URL: https://jlcpcb.com/partdetail/C394004; ComponentLink3Description: LCSC Part URL; ComponentLink3URL: https://lcsc.com/product-detail/Inductors-SMD_FH-Guangdong-Fenghua-Advanced-Tech-FH-Guangdong-Fenghua-Advanced-Tech-FHW1008IF1R0JST_C394004.html
footprint IND-1008 (1008 (2520M) Inductor)
pins: 1, 2

## FHW1008IF1R2JST
designator L?  Inductance: 1.2uH
Inductor, 1.2uH, ±5%, 750mΩ, 550mA, SMD 1008; Manufacturer: FH(Guangdong Fenghua Advanced Tech); Manufacturer Part Number: FHW1008IF1R2JST; Self-Resonant Frequency: 250MHz; Q Factor: 12@7.96MHz; Package Size: 1008; JLCPCB Basic Part: No; JLCPCB Part Number: C394005; Supplier 1: LCSC; Category: Inductors; Supplier Part Number 1: C394005; Tolerance: ±5%; Rated Current: 550mA; DC Resistance: 750mΩ; RoHS: Yes; ComponentLink1Description: Datasheet; ComponentLink1URL: https://wmsc.lcsc.com/wmsc/upload/file/pdf/v2/lcsc/2303141830_FH--Guangdong-Fenghua-Advanced-Tech-FHW1008IF1R2JST_C394005.pdf; ComponentLink2Description: JLCPCB Part URL; ComponentLink2URL: https://jlcpcb.com/partdetail/C394005; ComponentLink3Description: LCSC Part URL; ComponentLink3URL: https://lcsc.com/product-detail/Inductors-SMD_FH-Guangdong-Fenghua-Advanced-Tech-FH-Guangdong-Fenghua-Advanced-Tech-FHW1008IF1R2JST_C394005.html
footprint IND-1008 (1008 (2520M) Inductor)
pins: 1, 2

## FHW1008IF1R5JST
designator L?  Inductance: 1.5uH
Inductor, 1.5uH, ±5%, 850mΩ, 400mA, SMD 1008; Manufacturer: FH(Guangdong Fenghua Advanced Tech); Manufacturer Part Number: FHW1008IF1R5JST; Self-Resonant Frequency: 230MHz; Q Factor: 12@7.96MHz; Package Size: 1008; JLCPCB Basic Part: No; JLCPCB Part Number: C394006; Supplier 1: LCSC; Category: Inductors; Supplier Part Number 1: C394006; Tolerance: ±5%; Rated Current: 400mA; DC Resistance: 850mΩ; RoHS: Yes; ComponentLink1Description: Datasheet; ComponentLink1URL: https://wmsc.lcsc.com/wmsc/upload/file/pdf/v2/lcsc/2303141830_FH--Guangdong-Fenghua-Advanced-Tech-FHW1008IF1R5JST_C394006.pdf; ComponentLink2Description: JLCPCB Part URL; ComponentLink2URL: https://jlcpcb.com/partdetail/C394006; ComponentLink3Description: LCSC Part URL; ComponentLink3URL: https://lcsc.com/product-detail/Inductors-SMD_FH-Guangdong-Fenghua-Advanced-Tech-FH-Guangdong-Fenghua-Advanced-Tech-FHW1008IF1R5JST_C394006.html
footprint IND-1008 (1008 (2520M) Inductor)
pins: 1, 2

## FHW1008IF1R8JST
designator L?  Inductance: 1.8uH
Inductor, 1.8uH, ±5%, 950mΩ, 320mA, SMD 1008; Manufacturer: FH(Guangdong Fenghua Advanced Tech); Manufacturer Part Number: FHW1008IF1R8JST; Self-Resonant Frequency: 168MHz; Q Factor: 12@7.96MHz; Package Size: 1008; JLCPCB Basic Part: No; JLCPCB Part Number: C394007; Supplier 1: LCSC; Category: Inductors; Supplier Part Number 1: C394007; Tolerance: ±5%; Rated Current: 320mA; DC Resistance: 950mΩ; RoHS: Yes; ComponentLink1Description: Datasheet; ComponentLink1URL: https://wmsc.lcsc.com/wmsc/upload/file/pdf/v2/lcsc/2303141830_FH--Guangdong-Fenghua-Advanced-Tech-FHW1008IF1R8JST_C394007.pdf; ComponentLink2Description: JLCPCB Part URL; ComponentLink2URL: https://jlcpcb.com/partdetail/C394007; ComponentLink3Description: LCSC Part URL; ComponentLink3URL: https://lcsc.com/product-detail/Inductors-SMD_FH-Guangdong-Fenghua-Advanced-Tech-FH-Guangdong-Fenghua-Advanced-Tech-FHW1008IF1R8JST_C394007.html
footprint IND-1008 (1008 (2520M) Inductor)
pins: 1, 2

## FHW1008IF2R2JST
designator L?  Inductance: 2.2uH
Inductor, 2.2uH, ±5%, 1.3Ω, 315mA, SMD 1008; Manufacturer: FH(Guangdong Fenghua Advanced Tech); Manufacturer Part Number: FHW1008IF2R2JST; Self-Resonant Frequency: 150MHz; Q Factor: 12@7.96MHz; Package Size: 1008; JLCPCB Basic Part: No; JLCPCB Part Number: C394008; Supplier 1: LCSC; Category: Inductors; Supplier Part Number 1: C394008; Tolerance: ±5%; Rated Current: 315mA; DC Resistance: 1.3Ω; RoHS: Yes; ComponentLink1Description: Datasheet; ComponentLink1URL: https://wmsc.lcsc.com/wmsc/upload/file/pdf/v2/lcsc/2303141830_FH--Guangdong-Fenghua-Advanced-Tech-FHW1008IF2R2JST_C394008.pdf; ComponentLink2Description: JLCPCB Part URL; ComponentLink2URL: https://jlcpcb.com/partdetail/C394008; ComponentLink3Description: LCSC Part URL; ComponentLink3URL: https://lcsc.com/product-detail/Inductors-SMD_FH-Guangdong-Fenghua-Advanced-Tech-FH-Guangdong-Fenghua-Advanced-Tech-FHW1008IF2R2JST_C394008.html
footprint IND-1008 (1008 (2520M) Inductor)
pins: 1, 2

## FHW1008IF2R7JST
designator L?  Inductance: 2.7uH
Inductor, 2.7uH, ±5%, 1.4Ω, 300mA, SMD 1008; Manufacturer: FH(Guangdong Fenghua Advanced Tech); Manufacturer Part Number: FHW1008IF2R7JST; Self-Resonant Frequency: 100MHz; Q Factor: 12@7.96MHz; Package Size: 1008; JLCPCB Basic Part: No; JLCPCB Part Number: C394009; Supplier 1: LCSC; Category: Inductors; Supplier Part Number 1: C394009; Tolerance: ±5%; Rated Current: 300mA; DC Resistance: 1.4Ω; RoHS: Yes; ComponentLink1Description: Datasheet; ComponentLink1URL: https://wmsc.lcsc.com/wmsc/upload/file/pdf/v2/lcsc/2303141830_FH--Guangdong-Fenghua-Advanced-Tech-FHW1008IF2R7JST_C394009.pdf; ComponentLink2Description: JLCPCB Part URL; ComponentLink2URL: https://jlcpcb.com/partdetail/C394009; ComponentLink3Description: LCSC Part URL; ComponentLink3URL: https://lcsc.com/product-detail/Inductors-SMD_FH-Guangdong-Fenghua-Advanced-Tech-FH-Guangdong-Fenghua-Advanced-Tech-FHW1008IF2R7JST_C394009.html
footprint IND-1008 (1008 (2520M) Inductor)
pins: 1, 2

## FHW1008IF3R3JST
designator L?  Inductance: 3.3uH
Inductor, 3.3uH, ±5%, 1.5Ω, 280mA, SMD 1008; Manufacturer: FH(Guangdong Fenghua Advanced Tech); Manufacturer Part Number: FHW1008IF3R3JST; Self-Resonant Frequency: 80MHz; Q Factor: 12@7.96MHz; Package Size: 1008; JLCPCB Basic Part: No; JLCPCB Part Number: C394010; Supplier 1: LCSC; Category: Inductors; Supplier Part Number 1: C394010; Tolerance: ±5%; Rated Current: 280mA; DC Resistance: 1.5Ω; RoHS: Yes; ComponentLink1Description: Datasheet; ComponentLink1URL: https://wmsc.lcsc.com/wmsc/upload/file/pdf/v2/lcsc/2303141830_FH--Guangdong-Fenghua-Advanced-Tech-FHW1008IF3R3JST_C394010.pdf; ComponentLink2Description: JLCPCB Part URL; ComponentLink2URL: https://jlcpcb.com/partdetail/C394010; ComponentLink3Description: LCSC Part URL; ComponentLink3URL: https://lcsc.com/product-detail/Inductors-SMD_FH-Guangdong-Fenghua-Advanced-Tech-FH-Guangdong-Fenghua-Advanced-Tech-FHW1008IF3R3JST_C394010.html
footprint IND-1008 (1008 (2520M) Inductor)
pins: 1, 2

## FHW1008IF3R9JST
designator L?  Inductance: 3.9uH
Inductor, 3.9uH, ±5%, 1.55Ω, 250mA, SMD 1008; Manufacturer: FH(Guangdong Fenghua Advanced Tech); Manufacturer Part Number: FHW1008IF3R9JST; Self-Resonant Frequency: 60MHz; Q Factor: 12@7.96MHz; Package Size: 1008; JLCPCB Basic Part: No; JLCPCB Part Number: C394011; Supplier 1: LCSC; Category: Inductors; Supplier Part Number 1: C394011; Tolerance: ±5%; Rated Current: 250mA; DC Resistance: 1.55Ω; RoHS: Yes; ComponentLink1Description: Datasheet; ComponentLink1URL: https://wmsc.lcsc.com/wmsc/upload/file/pdf/v2/lcsc/2303141830_FH--Guangdong-Fenghua-Advanced-Tech-FHW1008IF3R9JST_C394011.pdf; ComponentLink2Description: JLCPCB Part URL; ComponentLink2URL: https://jlcpcb.com/partdetail/C394011; ComponentLink3Description: LCSC Part URL; ComponentLink3URL: https://lcsc.com/product-detail/Inductors-SMD_FH-Guangdong-Fenghua-Advanced-Tech-FH-Guangdong-Fenghua-Advanced-Tech-FHW1008IF3R9JST_C394011.html
footprint IND-1008 (1008 (2520M) Inductor)
pins: 1, 2

## FHW1008IF4R7JST
designator L?  Inductance: 4.7uH
Inductor, 4.7uH, ±5%, 1.75Ω, 210mA, SMD 1008; Manufacturer: FH(Guangdong Fenghua Advanced Tech); Manufacturer Part Number: FHW1008IF4R7JST; Self-Resonant Frequency: 50MHz; Q Factor: 12@7.96MHz; Package Size: 1008; JLCPCB Basic Part: No; JLCPCB Part Number: C394012; Supplier 1: LCSC; Category: Inductors; Supplier Part Number 1: C394012; Tolerance: ±5%; Rated Current: 210mA; DC Resistance: 1.75Ω; RoHS: Yes; ComponentLink1Description: Datasheet; ComponentLink1URL: https://wmsc.lcsc.com/wmsc/upload/file/pdf/v2/lcsc/2303141830_FH--Guangdong-Fenghua-Advanced-Tech-FHW1008IF4R7JST_C394012.pdf; ComponentLink2Description: JLCPCB Part URL; ComponentLink2URL: https://jlcpcb.com/partdetail/C394012; ComponentLink3Description: LCSC Part URL; ComponentLink3URL: https://lcsc.com/product-detail/Inductors-SMD_FH-Guangdong-Fenghua-Advanced-Tech-FH-Guangdong-Fenghua-Advanced-Tech-FHW1008IF4R7JST_C394012.html
footprint IND-1008 (1008 (2520M) Inductor)
pins: 1, 2

## FHW1008IF5R6JST
designator L?  Inductance: 5.6uH
Inductor, 5.6uH, ±5%, 1.9Ω, 190mA, SMD 1008; Manufacturer: FH(Guangdong Fenghua Advanced Tech); Manufacturer Part Number: FHW1008IF5R6JST; Self-Resonant Frequency: 40MHz; Q Factor: 12@7.96MHz; Package Size: 1008; JLCPCB Basic Part: No; JLCPCB Part Number: C394013; Supplier 1: LCSC; Category: Inductors; Supplier Part Number 1: C394013; Tolerance: ±5%; Rated Current: 190mA; DC Resistance: 1.9Ω; RoHS: Yes; ComponentLink1Description: Datasheet; ComponentLink1URL: https://wmsc.lcsc.com/wmsc/upload/file/pdf/v2/lcsc/2303141830_FH--Guangdong-Fenghua-Advanced-Tech-FHW1008IF5R6JST_C394013.pdf; ComponentLink2Description: JLCPCB Part URL; ComponentLink2URL: https://jlcpcb.com/partdetail/C394013; ComponentLink3Description: LCSC Part URL; ComponentLink3URL: https://lcsc.com/product-detail/Inductors-SMD_FH-Guangdong-Fenghua-Advanced-Tech-FH-Guangdong-Fenghua-Advanced-Tech-FHW1008IF5R6JST_C394013.html
footprint IND-1008 (1008 (2520M) Inductor)
pins: 1, 2

## FHW1008IF6R8JST
designator L?  Inductance: 6.8uH
Inductor, 6.8uH, ±5%, 2Ω, 175mA, SMD 1008; Manufacturer: FH(Guangdong Fenghua Advanced Tech); Manufacturer Part Number: FHW1008IF6R8JST; Self-Resonant Frequency: 35MHz; Q Factor: 12@7.96MHz; Package Size: 1008; JLCPCB Basic Part: No; JLCPCB Part Number: C394014; Supplier 1: LCSC; Category: Inductors; Supplier Part Number 1: C394014; Tolerance: ±5%; Rated Current: 175mA; DC Resistance: 2Ω; RoHS: Yes; ComponentLink1Description: Datasheet; ComponentLink1URL: https://wmsc.lcsc.com/wmsc/upload/file/pdf/v2/lcsc/2303141830_FH--Guangdong-Fenghua-Advanced-Tech-FHW1008IF6R8JST_C394014.pdf; ComponentLink2Description: JLCPCB Part URL; ComponentLink2URL: https://jlcpcb.com/partdetail/C394014; ComponentLink3Description: LCSC Part URL; ComponentLink3URL: https://lcsc.com/product-detail/Inductors-SMD_FH-Guangdong-Fenghua-Advanced-Tech-FH-Guangdong-Fenghua-Advanced-Tech-FHW1008IF6R8JST_C394014.html
footprint IND-1008 (1008 (2520M) Inductor)
pins: 1, 2

## FHW1008IF8R2JST
designator L?  Inductance: 8.2uH
Inductor, 8.2uH, ±5%, 2.2Ω, 160mA, SMD 1008; Manufacturer: FH(Guangdong Fenghua Advanced Tech); Manufacturer Part Number: FHW1008IF8R2JST; Self-Resonant Frequency: 25MHz; Q Factor: 12@7.96MHz; Package Size: 1008; JLCPCB Basic Part: No; JLCPCB Part Number: C316439; Supplier 1: LCSC; Category: Inductors; Supplier Part Number 1: C316439; Tolerance: ±5%; Rated Current: 160mA; DC Resistance: 2.2Ω; RoHS: Yes; ComponentLink1Description: Datasheet; ComponentLink1URL: https://wmsc.lcsc.com/wmsc/upload/file/pdf/v2/lcsc/2303141830_FH--Guangdong-Fenghua-Advanced-Tech-FHW1008IF8R2JST_C316439.pdf; ComponentLink2Description: JLCPCB Part URL; ComponentLink2URL: https://jlcpcb.com/partdetail/C316439; ComponentLink3Description: LCSC Part URL; ComponentLink3URL: https://lcsc.com/product-detail/Inductors-SMD_FH-Guangdong-Fenghua-Advanced-Tech-FH-Guangdong-Fenghua-Advanced-Tech-FHW1008IF8R2JST_C316439.html
footprint IND-1008 (1008 (2520M) Inductor)
pins: 1, 2

## FHW1008IF100JST
designator L?  Inductance: 10uH
Inductor, 10uH, ±5%, 2.5Ω, 155mA, SMD 1008; Manufacturer: FH(Guangdong Fenghua Advanced Tech); Manufacturer Part Number: FHW1008IF100JST; Self-Resonant Frequency: 25MHz; Q Factor: 10@2.52MHz; Package Size: 1008; JLCPCB Basic Part: No; JLCPCB Part Number: C394015; Supplier 1: LCSC; Category: Inductors; Supplier Part Number 1: C394015; Tolerance: ±5%; Rated Current: 155mA; DC Resistance: 2.5Ω; RoHS: Yes; ComponentLink1Description: Datasheet; ComponentLink1URL: https://wmsc.lcsc.com/wmsc/upload/file/pdf/v2/lcsc/2303141830_FH--Guangdong-Fenghua-Advanced-Tech-FHW1008IF100JST_C394015.pdf; ComponentLink2Description: JLCPCB Part URL; ComponentLink2URL: https://jlcpcb.com/partdetail/C394015; ComponentLink3Description: LCSC Part URL; ComponentLink3URL: https://lcsc.com/product-detail/Inductors-SMD_FH-Guangdong-Fenghua-Advanced-Tech-FH-Guangdong-Fenghua-Advanced-Tech-FHW1008IF100JST_C394015.html
footprint IND-1008 (1008 (2520M) Inductor)
pins: 1, 2

## FHW1008IF101JST
designator L?  Inductance: 100uH
Inductor, 100uH, ±5%, 11Ω, 40mA, SMD 1008; Manufacturer: FH(Guangdong Fenghua Advanced Tech); Manufacturer Part Number: FHW1008IF101JST; Self-Resonant Frequency: 4.5MHz; Q Factor: 8@796kHz; Package Size: 1008; JLCPCB Basic Part: No; JLCPCB Part Number: C394077; Supplier 1: LCSC; Category: Inductors; Supplier Part Number 1: C394077; Tolerance: ±5%; Rated Current: 40mA; DC Resistance: 11Ω; RoHS: Yes; ComponentLink1Description: Datasheet; ComponentLink1URL: https://wmsc.lcsc.com/wmsc/upload/file/pdf/v2/lcsc/2303141830_FH--Guangdong-Fenghua-Advanced-Tech-FHW1008IF101JST_C394077.pdf; ComponentLink2Description: JLCPCB Part URL; ComponentLink2URL: https://jlcpcb.com/partdetail/C394077; ComponentLink3Description: LCSC Part URL; ComponentLink3URL: https://lcsc.com/product-detail/Inductors-SMD_FH-Guangdong-Fenghua-Advanced-Tech-FH-Guangdong-Fenghua-Advanced-Tech-FHW1008IF101JST_C394077.html
footprint IND-1008 (1008 (2520M) Inductor)
pins: 1, 2

## FHW1008IF120JST
designator L?  Inductance: 12uH
Inductor, 12uH, ±5%, 2.6Ω, 145mA, SMD 1008; Manufacturer: FH(Guangdong Fenghua Advanced Tech); Manufacturer Part Number: FHW1008IF120JST; Self-Resonant Frequency: 20MHz; Q Factor: 10@2.52MHz; Package Size: 1008; JLCPCB Basic Part: No; JLCPCB Part Number: C394016; Supplier 1: LCSC; Category: Inductors; Supplier Part Number 1: C394016; Tolerance: ±5%; Rated Current: 145mA; DC Resistance: 2.6Ω; RoHS: Yes; ComponentLink1Description: Datasheet; ComponentLink1URL: https://wmsc.lcsc.com/wmsc/upload/file/pdf/v2/lcsc/2303141830_FH--Guangdong-Fenghua-Advanced-Tech-FHW1008IF120JST_C394016.pdf; ComponentLink2Description: JLCPCB Part URL; ComponentLink2URL: https://jlcpcb.com/partdetail/C394016; ComponentLink3Description: LCSC Part URL; ComponentLink3URL: https://lcsc.com/product-detail/Inductors-SMD_FH-Guangdong-Fenghua-Advanced-Tech-FH-Guangdong-Fenghua-Advanced-Tech-FHW1008IF120JST_C394016.html
footprint IND-1008 (1008 (2520M) Inductor)
pins: 1, 2

## FHW1008IF121JST
designator L?  Inductance: 120uH
Inductor, 120uH, ±5%, 13Ω, 30mA, SMD 1008; Manufacturer: FH(Guangdong Fenghua Advanced Tech); Manufacturer Part Number: FHW1008IF121JST; Self-Resonant Frequency: 3MHz; Q Factor: 8@796kHz; Package Size: 1008; JLCPCB Basic Part: No; JLCPCB Part Number: C394078; Supplier 1: LCSC; Category: Inductors; Supplier Part Number 1: C394078; Tolerance: ±5%; Rated Current: 30mA; DC Resistance: 13Ω; RoHS: Yes; ComponentLink1Description: Datasheet; ComponentLink1URL: https://wmsc.lcsc.com/wmsc/upload/file/pdf/v2/lcsc/2303141830_FH--Guangdong-Fenghua-Advanced-Tech-FHW1008IF121JST_C394078.pdf; ComponentLink2Description: JLCPCB Part URL; ComponentLink2URL: https://jlcpcb.com/partdetail/C394078; ComponentLink3Description: LCSC Part URL; ComponentLink3URL: https://lcsc.com/product-detail/Inductors-SMD_FH-Guangdong-Fenghua-Advanced-Tech-FH-Guangdong-Fenghua-Advanced-Tech-FHW1008IF121JST_C394078.html
footprint IND-1008 (1008 (2520M) Inductor)
pins: 1, 2

## FHW1008IF150JST
designator L?  Inductance: 15uH
Inductor, 15uH, ±5%, 3Ω, 130mA, SMD 1008; Manufacturer: FH(Guangdong Fenghua Advanced Tech); Manufacturer Part Number: FHW1008IF150JST; Self-Resonant Frequency: 20MHz; Q Factor: 10@2.52MHz; Package Size: 1008; JLCPCB Basic Part: No; JLCPCB Part Number: C394017; Supplier 1: LCSC; Category: Inductors; Supplier Part Number 1: C394017; Tolerance: ±5%; Rated Current: 130mA; DC Resistance: 3Ω; RoHS: Yes; ComponentLink1Description: Datasheet; ComponentLink1URL: https://wmsc.lcsc.com/wmsc/upload/file/pdf/v2/lcsc/2303141830_FH--Guangdong-Fenghua-Advanced-Tech-FHW1008IF150JST_C394017.pdf; ComponentLink2Description: JLCPCB Part URL; ComponentLink2URL: https://jlcpcb.com/partdetail/C394017; ComponentLink3Description: LCSC Part URL; ComponentLink3URL: https://lcsc.com/product-detail/Inductors-SMD_FH-Guangdong-Fenghua-Advanced-Tech-FH-Guangdong-Fenghua-Advanced-Tech-FHW1008IF150JST_C394017.html
footprint IND-1008 (1008 (2520M) Inductor)
pins: 1, 2